# Altium footprint library ic_ru.PcbLib: 27 footprints (part 2 of 2)
Each footprint in its own frame and in the unit in brackets; x right, y up, seen from the top. Pads: shape width x height; smd on the part's side, far side on the other; paste and mask are expansions set on the pad; w line width, h text height; cw(c..) or ccw(c..) is an arc to the next point about the centre after c.
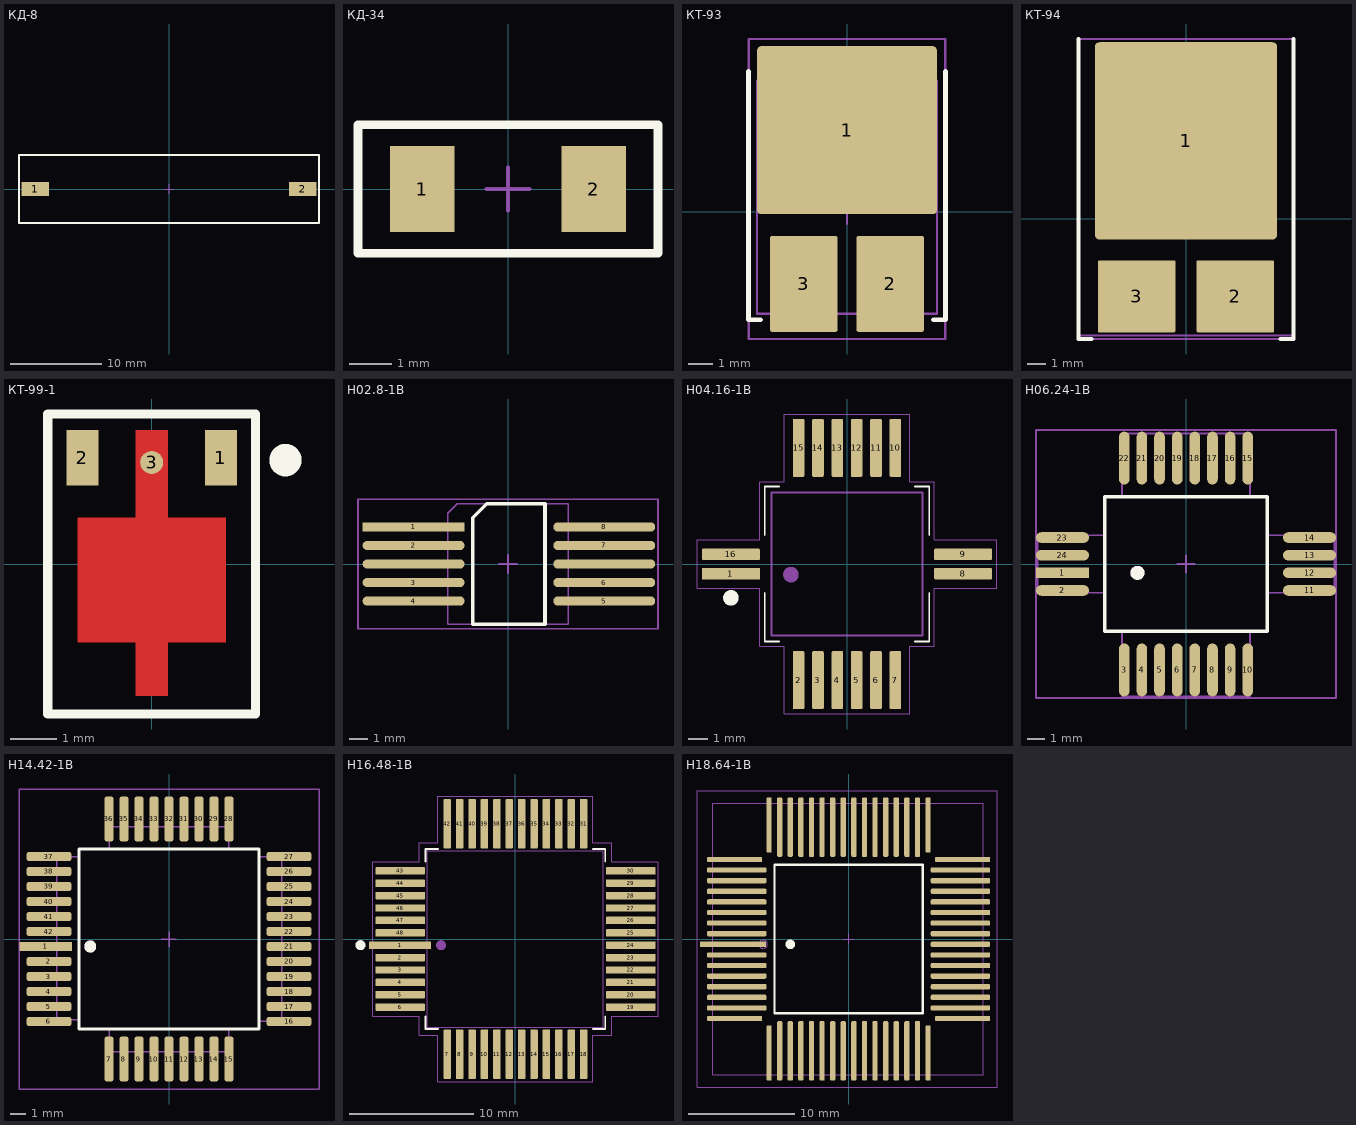
[diagram p1: the footprints below, top view; thin cyan lines are the x and y axes]

## КД-8 [mm]
pads (2):
  rect 3x1.5 smd: 1(-14.7,0) 2(14.7,0)
Top Overlay:
  lines w0.2: -16.5,-3.75 16.5,-3.75 16.5,3.75 -16.5,3.75 -16.5,-3.75
Top Cortyard:
  lines w0.1: -0.5,0 0.5,0 ; 0,-0.5 0,0.5 ; -16.5,-3.75 -16.5,3.75 16.5,3.75 16.5,-3.75 -16.5,-3.75

## КД-34 [mm]
pads (2):
  rect 1.5x2 smd: 1(-2,0) 2(2,0)
Top Overlay:
  lines w0.2: -3.5,-1.5 3.5,-1.5 3.5,1.5 -3.5,1.5 -3.5,-1.5
Top Assy:
  lines w0.1: -3.5,-1.5 3.5,-1.5 3.5,1.5 -3.5,1.5 -3.5,-1.5
Top Cortyard:
  lines w0.1: -0.5,0 0.5,0 ; 0,-0.5 0,0.5 ; -3.5,-1.5 -3.5,1.5 3.5,1.5 3.5,-1.5 -3.5,-1.5

## КТ-93 [mm] "КТ-93, 3-Leads, Body 10.10x7.50x3.05mm"
height 3.05
pads (3):
  rrect5% 7.5x7 smd: 1(0,3.4)
  rrect5% 2.8x4 smd: 2(1.8,-3) 3(-1.8,-3)
Top Overlay:
  lines w0.2: -4.1,5.85 -4.1,-4.5 -3.6,-4.5 ; 3.6,-4.5 4.1,-4.5 4.1,5.85
Top Assy:
  lines w0.1: -3.75,-4.25 3.75,-4.25 3.75,5.45 3.35,5.85 -3.35,5.85 -3.75,5.45 -3.75,-4.25
Top Cortyard:
  lines w0.1: -0.5,0 0.5,0 ; 0,-0.5 0,0.5 ; -4.1,-5.3 4.1,-5.3 4.1,7.2 -4.1,7.2 -4.1,-5.3
3D body "кт-93-1.STEP": height 3.05, standoff 0, extent -3.8,-4.2 3.8,5.8

## КТ-94 [mm] "КТ-94, 3-Leads, Body 16x11.50x3.6mm"
height 3.6
pads (3):
  rrect5% 9.85x10.65 smd: 1(0,4.2)
  rrect5% 4.2x3.9 smd: 2(2.665,-4.2) 3(-2.665,-4.2)
Top Overlay:
  lines w0.2: -5.8,9.7 -5.8,-6.5 -5.1,-6.5 ; 5.1,-6.5 5.8,-6.5 5.8,9.7
Top Assy:
  lines w0.1: -5.8,-6.309 -5.8,9.7 5.8,9.7 5.8,-6.309 -5.8,-6.309
Top Cortyard:
  lines w0.1: -0.5,0 0.5,0 ; 0,-0.5 0,0.5 ; -5.8,-6.5 -5.8,9.7 5.8,9.7 5.8,-6.5 -5.8,-6.5
3D body "КТ-94.STEP": height 3.6, standoff 0, extent -5.78,-6.3 5.8,9.7

## КТ-99-1 [mm]
height 1.8
pads (3):
  rect 0.7x1.2 smd: 1(1.5,2.3) 2(-1.5,2.3)
  round 0.5 smd: 3(0,2.2)
Top Layer:
  region: 0.35,2.9 -0.35,2.9 -0.35,1 -1.6,1 -1.6,-1.7 -0.35,-1.7 -0.35,-2.85 0.35,-2.85 0.35,-1.7 1.6,-1.7 1.6,1 0.35,1
Top Overlay:
  circle w0.5: c2.9,2.25 r0.1
  lines w0.2: -2.25,-3.25 2.25,-3.25 2.25,3.25 -2.25,3.25 -2.25,-3.25
Top Assy:
  circle w0.5: c1.5,2.3 r0.1
  lines w0.1: -2.25,-3.25 -2.25,3.25 2.25,3.25 2.25,-3.25 -2.25,-3.25
Top Cortyard:
  lines w0.1: -0.5,0 0.5,0 ; 0,-0.5 0,0.5 ; -2.25,-3.25 2.25,-3.25 2.25,3.25 -2.25,3.25 -2.25,-3.25

## Н02.8-1В [mm] "Н02.8-1В, 10-Leads, Body 6.50x6.50x2.90mm, Pitch 1.0mm"
height 2.9
pads (10):
  rect 5.5x0.5 smd: 1(-5.1,2)
  oval 5.5x0.5 smd: 2(-5.1,1) 3(-5.1,-1) 4(-5.1,-2) 5(5.2,-2) 6(5.2,-1) 7(5.2,1) 8(5.2,2) ""(-5.1,0) ""(5.2,0)
Top Overlay:
  lines w0.2: -1.9,-3.25 -1.9,2.5 -1.15,3.25 2,3.25 2,-3.25 -1.9,-3.25
Top Assy:
  lines w0.1: -3.25,-3.25 -3.25,2.75 -2.75,3.25 3.25,3.25 3.25,-3.25 -3.25,-3.25
  text ".Designator" at -1.5,1.1 h2
Top Cortyard:
  lines w0.1: -0.5,0 0.5,0 ; 0,-0.5 0,0.5 ; -8.1,-3.5 -8.1,3.5 8.1,3.5 8.1,-3.5 -8.1,-3.5

## Н04.16-1В [mm] "Н04.16-1В, 16-Leads, Body 7.80x7.40x3mm, Pitch 1mm"
height 3
pads (16):
  rect 3x0.6 smd: 1(-6,-0.5)
  rrect25% 0.6x3 smd: 2(-2.5,-6) 3(-1.5,-6) 4(-0.5,-6) 5(0.5,-6) 6(1.5,-6) 7(2.5,-6) 10(2.5,6) 11(1.5,6) 12(0.5,6) 13(-0.5,6) 14(-1.5,6) 15(-2.5,6)
  rrect25% 3x0.6 smd: 8(6,-0.5) 9(6,0.5) 16(-6,0.5)
Top Overlay:
  circle w0.4: c-6,-1.75 r0.2
  lines w0.1: -4.25,-1.5 -4.25,-4 -3.5,-4 ; -4.25,1.5 -4.25,4 -3.5,4 ; 3.5,-4 4.25,-4 4.25,-1.5 ; 3.5,4 4.25,4 4.25,1.5
Top Assy:
  circle w0.4: c-2.9,-0.55 r0.2
  lines w0.1: -3.9,-3.7 3.9,-3.7 3.9,3.7 -3.9,3.7 -3.9,-3.7
Top Cortyard:
  lines w0.05: -7.75,-1.25 -7.75,1.25 -4.5,1.25 -4.5,4.25 -3.25,4.25 -3.25,7.75 3.25,7.75 3.25,4.25 4.5,4.25 4.5,1.25 7.75,1.25 7.75,-1.25 4.5,-1.25 4.5,-4.25 3.25,-4.25 3.25,-7.75 -3.25,-7.75 -3.25,-4.25 -4.5,-4.25 -4.5,-1.25 -7.75,-1.25
3D body "Н04.16-1В.STEP": height 2.92, standoff 0, extent -8,-7.84 8,7.84

## Н06.24-1B [mm]
pads (24):
  rect 3x0.6 smd: 1(-7,-0.5)
  oval 3x0.6 smd: 2(-7,-1.5) 11(7,-1.5) 12(7,-0.5) 13(7,0.5) 14(7,1.5) 23(-7,1.5) 24(-7,0.5)
  oval 0.6x3 smd: 3(-3.5,-6) 4(-2.5,-6) 5(-1.5,-6) 6(-0.5,-6) 7(0.5,-6) 8(1.5,-6) 9(2.5,-6) 10(3.5,-6) 15(3.5,6) 16(2.5,6) 17(1.5,6) 18(0.5,6) 19(-0.5,6) 20(-1.5,6) 21(-2.5,6) 22(-3.5,6)
Top Overlay:
  circle w0.4: c-2.75,-0.5 r0.2
  lines w0.2: -4.6,-3.8 4.6,-3.8 4.6,3.8 -4.6,3.8 -4.6,-3.8
Top Assy:
  circle w0.4: c-2.75,-0.5 r0.2
  lines w0.1: -4.6,-1.625 -8.4,-1.625 -8.4,1.625 -4.6,1.625 ; -3.625,-3.8 -3.625,-7.5 3.625,-7.5 3.625,-3.8 ; -3.625,3.8 -3.625,7.4 3.625,7.4 3.625,3.875 ; 4.6,-1.625 8.4,-1.625 8.4,1.625 4.6,1.625 ; -4.6,-3.8 -4.6,3.8 4.6,3.8 4.6,-3.8 -4.6,-3.8
Top Cortyard:
  lines w0.1: -0.5,0 0.5,0 ; 0,-0.5 0,0.5 ; -8.5,-7.6 -8.5,7.6 8.5,7.6 8.5,-7.6 -8.5,-7.6

## Н14.42-1В [mm]
height 3
pads (42):
  rect 3.5x0.6 smd: 1(-8.2,-0.5)
  rrect50% 3x0.6 smd: 2(-8,-1.5) 3(-8,-2.5) 4(-8,-3.5) 5(-8,-4.5) 6(-8,-5.5) 16(8,-5.5) 17(8,-4.5) 18(8,-3.5) 19(8,-2.5) 20(8,-1.5) 21(8,-0.5) 22(8,0.5) 23(8,1.5) 24(8,2.5) 25(8,3.5) 26(8,4.5) 27(8,5.5) 37(-8,5.5) 38(-8,4.5) 39(-8,3.5) 40(-8,2.5) 41(-8,1.5) 42(-8,0.5)
  rrect50% 0.6x3 smd: 7(-4,-8) 8(-3,-8) 9(-2,-8) 10(-1,-8) 11(0,-8) 12(1,-8) 13(2,-8) 14(3,-8) 15(4,-8) 28(4,8) 29(3,8) 30(2,8) 31(1,8) 32(0,8) 33(-1,8) 34(-2,8) 35(-3,8) 36(-4,8)
Top Overlay:
  circle w0.4: c-5.25,-0.5 r0.2
  lines w0.2: -6,-6 -6,6 6,6 6,-6 -6,-6
Top Assy:
  circle w0.4: c-5.25,-0.5 r0.2
  lines w0.1: -6,-5.4 -7.5,-5.4 -7.5,5.5 -6,5.5 ; -4,-6 -4,-7.5 4,-7.5 4,-6 ; -4,6 -4,7.5 4,7.5 4,6 ; 6,-5.5 7.5,-5.5 7.5,5.5 6,5.5 ; -6,-6 -6,6 6,6 6,-6 -6,-6
Top Cortyard:
  lines w0.1: -0.5,0 0.5,0 ; 0,-0.5 0,0.5 ; -10,-10 -10,10 10,10 10,-10 -10,-10
3D body "H14_42-1B.step": height 3.05, standoff 0.04, extent -7.5,-7.5 7.5,7.5

## Н16.48-1В [mm]
height 3.3
pads (48):
  rect 5x0.6 smd: 1(-9.3,-0.5)
  rrect25% 4x0.6 smd: 2(-9.3,-1.5) 3(-9.3,-2.5) 4(-9.3,-3.5) 5(-9.3,-4.5) 6(-9.3,-5.5) 19(9.3,-5.5) 20(9.3,-4.5) 21(9.3,-3.5) 22(9.3,-2.5) 23(9.3,-1.5) 24(9.3,-0.5) 25(9.3,0.5) 26(9.3,1.5) 27(9.3,2.5) 28(9.3,3.5) 29(9.3,4.5) 30(9.3,5.5) 43(-9.3,5.5) 44(-9.3,4.5) 45(-9.3,3.5) 46(-9.3,2.5) 47(-9.3,1.5) 48(-9.3,0.5)
  rrect25% 0.6x4 smd: 7(-5.5,-9.3) 8(-4.5,-9.3) 9(-3.5,-9.3) 10(-2.5,-9.3) 11(-1.5,-9.3) 12(-0.5,-9.3) 13(0.5,-9.3) 14(1.5,-9.3) 15(2.5,-9.3) 16(3.5,-9.3) 17(4.5,-9.3) 18(5.5,-9.3) 31(5.5,9.3) 32(4.5,9.3) 33(3.5,9.3) 34(2.5,9.3) 35(1.5,9.3) 36(0.5,9.3) 37(-0.5,9.3) 38(-1.5,9.3) 39(-2.5,9.3) 40(-3.5,9.3) 41(-4.5,9.3) 42(-5.5,9.3)
Top Overlay:
  circle w0.4: c-12.5,-0.5 r0.2
  lines w0.15: -7.25,-6.25 -7.25,-7.25 -6.25,-7.25 ; -7.25,6.25 -7.25,7.25 -6.25,7.25 ; 6.25,-7.25 7.25,-7.25 7.25,-6.25 ; 6.25,7.25 7.25,7.25 7.25,6.25
Top Assy:
  circle w0.4: c-6,-0.5 r0.2
  lines w0.1: -7.1,-7.1 -7.1,7.1 7.1,7.1 7.1,-7.1 -7.1,-7.1
Top Cortyard:
  lines w0.05: -11.5,-6.25 -11.5,6.25 -7.75,6.25 -7.75,7.75 -6.25,7.75 -6.25,11.5 6.25,11.5 6.25,7.75 7.75,7.75 7.75,6.25 11.5,6.25 11.5,-6.25 7.75,-6.25 7.75,-7.75 6.25,-7.75 6.25,-11.5 -6.25,-11.5 -6.25,-7.75 -7.75,-7.75 -7.75,-6.25 -11.5,-6.25
3D body "User Library-H16_48-1B.step": height 3.6, standoff 0, extent -11.25,-11.25 11.25,11.25

## Н18.64-1В [mm] "Н16.48-1В, 48-Leads, Body 14.20x14.20x3.00mm, Pitch 1.0mm"
height 3
pads (64):
  rect 6.2x0.5 smd: 1(-10.9,-0.5)
  rrect50% 5.6x0.5 smd: 2(-10.55,-1.5) 3(-10.55,-2.5) 4(-10.55,-3.5) 5(-10.55,-4.5) 6(-10.55,-5.5) 7(-10.55,-6.5) 26(10.55,-6.5) 27(10.55,-5.5) 28(10.55,-4.5) 29(10.55,-3.5) 30(10.55,-2.5) 31(10.55,-1.5) 32(10.55,-0.5) 33(10.55,0.5) 34(10.55,1.5) 35(10.55,2.5) 36(10.55,3.5) 37(10.55,4.5) 38(10.55,5.5) 39(10.55,6.5) 58(-10.55,6.5) 59(-10.55,5.5) 60(-10.55,4.5) 61(-10.55,3.5) 62(-10.55,2.5) 63(-10.55,1.5) 64(-10.55,0.5)
  rrect50% 5.2x0.5 smd: 8(-10.75,-7.5) 25(10.75,-7.5) 40(10.75,7.5) 57(-10.75,7.5)
  rrect50% 0.5x5.2 smd: 9(-7.5,-10.75) 24(7.5,-10.75) 41(7.5,10.75) 56(-7.5,10.75)
  rrect50% 0.5x5.6 smd: 10(-6.5,-10.55) 11(-5.5,-10.55) 12(-4.5,-10.55) 13(-3.5,-10.55) 14(-2.5,-10.55) 15(-1.5,-10.55) 16(-0.5,-10.55) 17(0.5,-10.55) 18(1.5,-10.55) 19(2.5,-10.55) 20(3.5,-10.55) 21(4.5,-10.55) 22(5.5,-10.55) 23(6.5,-10.55) 42(6.5,10.55) 43(5.5,10.55) 44(4.5,10.55) 45(3.5,10.55) 46(2.5,10.55) 47(1.5,10.55) 48(0.5,10.55) 49(-0.5,10.55) 50(-1.5,10.55) 51(-2.5,10.55) 52(-3.5,10.55) 53(-4.5,10.55) 54(-5.5,10.55) 55(-6.5,10.55)
Top Overlay:
  circle w0.6: c-5.5,-0.5 r0.15
  lines w0.2: -7,-7 -7,7 7,7 7,-7 -7,-7
Top Assy:
  circle w0.1: c-8.05,-0.5 r0.4
  lines w0.1: -12.8,-12.8 12.7,-12.8 12.7,12.8 -12.8,12.8 -12.8,-12.8
Top Cortyard:
  lines w0.1: -0.5,0 0.5,0 ; 0,-0.5 0,0.5 ; -14.3,-14 -14.3,14 14,14 14,-14 -14.3,-14
3D body "Н18.64-1В.STEP": height 2.83, standoff -0.02, extent -12.8,-12.75 12.7,12.75